# Altium integrated library TI Amplifiers and Linear PGA-VGA.IntLib: 149 symbols (part 3 of 8)
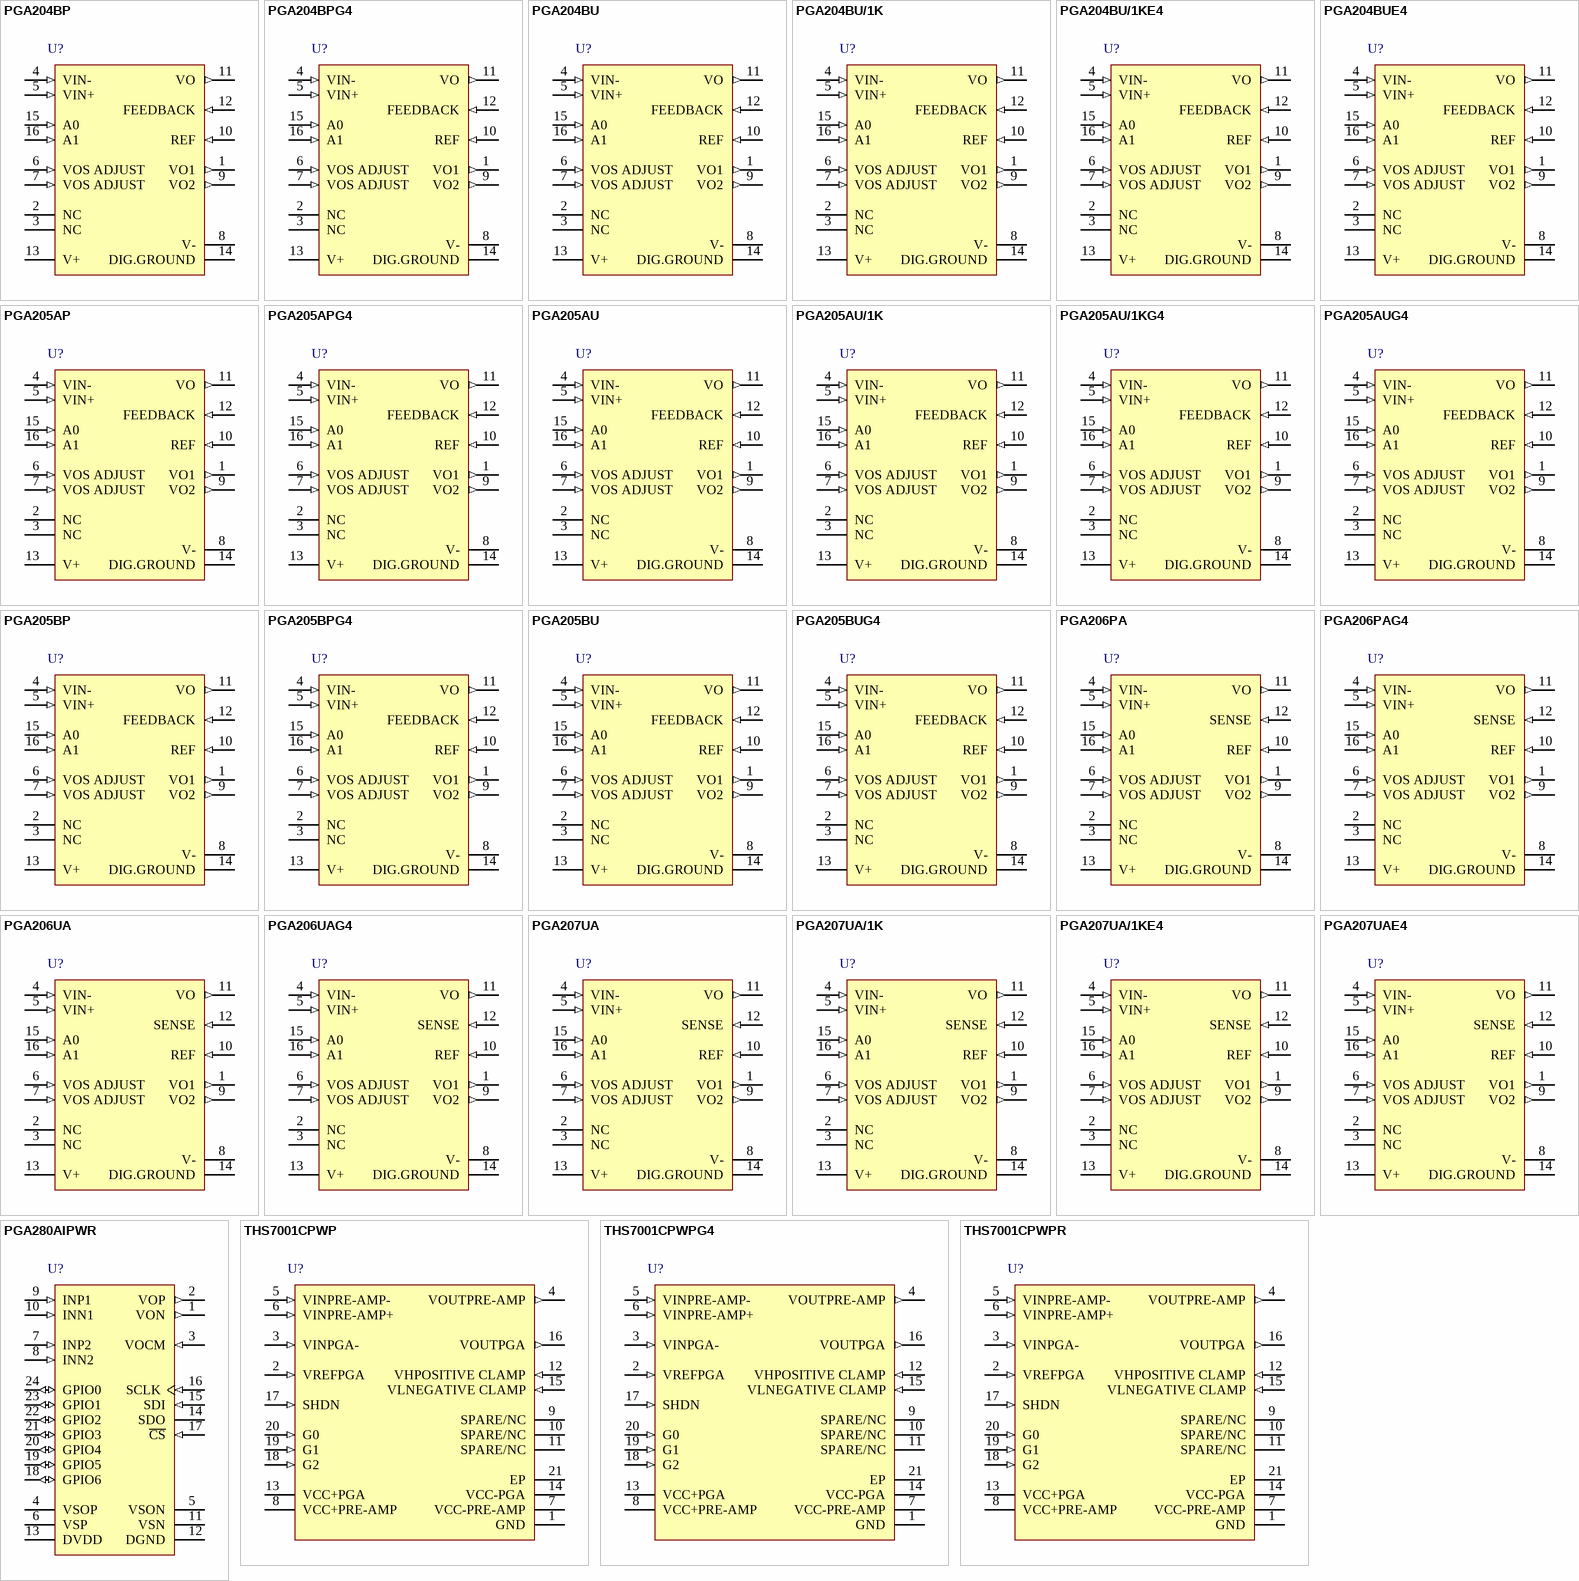
[diagram p9: symbols PGA204BP to THS7001CPWPR]

## PGA205AUG4
designator U?
Programmable Gain Instrumentation Amplifier, -40 to 85 degC, 16-pin SOIC (DW16), Green (RoHS & no Sb/Br); Manufacturer: Texas Instruments; PartNumber: PGA205AUG4; Common Mode Input High(Min)(V): 10.5; Common Mode Input Low(Min)(V): -10.5; Gain Error (+/-)(Max)(%): 0.05; Gain(V/V): 1, 2, 4, 8; Input Bias Current (+/-)(Max)(nA): 5; Input Offset (+/-)(Max)(uV): 125; Input Offset Drift (+/-)(Max)(uV/Degrees Celsius): 1; Noise at 1kHz(Typ)(nV/rt(Hz)): 15; Non-Linearity (+/-)(Max)(%): 0.002; Quiescent Current (+/-)(Typ)(mA): 5.2; Settling Time to 0.01%(Typ)(us): 28; Slew Rate(Typ)(V/us): 0.7; SubFamily: Programmable Gain Amplifier; Vs(Max)(V): 36; Vs(Min)(V): 9; DatasheetVersion: SBOS022; PackageVersion: 4040000-2/G, 01/2011; PackageReference: DW16; PackageDescription: 16-Pin Plastic Small Outline, Body 10.30 x 7.50 mm, Pitch 1.27 mm; Supplier 1: Digi-Key; Supplier Part Number 1: PGA205AUG4-ND; Supplier 2: Mouser; Supplier Part Number 2: 595-PGA205AUG4; Eco-Plan: Green (RoHS & no Sb/Br); Number of Channels: 1; Mounting Technology: Surface Mount; Code_JEDEC: MS-013; ComponentLink1Description: Manufacturer URL; ComponentLink1URL: http://www.ti.com/; ComponentLink2Description: Datasheet; ComponentLink2URL: http://www.ti.com/general/docs/lit/getliterature.tsp?genericPartNumber=PGA205&fileType=pdf; ComponentLink3Description: Package Specification; ComponentLink3URL: http://www.ti.com/litv/pdf/msoi003g
footprint TI-DW16_N (SOIC, 16-Leads, Body 10.5x7.6mm, Pitch 1.27mm, IPC Medium Density)
footprint TI-DW16_L (SOIC, 16-Leads, Body 10.5x7.6mm, Pitch 1.27mm, IPC High Density)
footprint TI-DW16_M (SOIC, 16-Leads, Body 10.5x7.6mm, Pitch 1.27mm, IPC Low Density)
pins: 1 VO1 (out), 2 NC, 3 NC, 4 VIN- (in), 5 VIN+ (in), 6 VOS ADJUST (in), 7 VOS ADJUST (in), 8 V- (power), 9 VO2 (out), 10 REF (in), 11 VO (out), 12 FEEDBACK (in), 13 V+ (power), 14 DIG.GROUND (power), 15 A0 (in), 16 A1 (in)

## PGA205BP
designator U?
Programmable Gain Instrumentation Amplifier, -40 to 85 degC, 16-pin DIP (N16), Green (RoHS & no Sb/Br); Manufacturer: Texas Instruments; PartNumber: PGA205BP; Common Mode Input High(Min)(V): 10.5; Common Mode Input Low(Min)(V): -10.5; Gain Error (+/-)(Max)(%): 0.024; Gain(V/V): 1, 2, 4, 8; Input Bias Current (+/-)(Max)(nA): 2; Input Offset (+/-)(Max)(uV): 50; Input Offset Drift (+/-)(Max)(uV/Degrees Celsius): 0.25; Noise at 1kHz(Typ)(nV/rt(Hz)): 15; Non-Linearity (+/-)(Max)(%): 0.001; Number of Channels: 1; Quiescent Current (+/-)(Typ)(mA): 5.2; Settling Time to 0.01%(Typ)(us): 28; Slew Rate(Typ)(V/us): 0.7; SubFamily: Programmable Gain Amplifier; Vs(Max)(V): 36; Vs(Min)(V): 9; DatasheetVersion: SBOS022; PackageVersion: 4040049/E, 12/2002; PackageReference: N16; PackageDescription: 16-Pin Plastic In-Line, Body 19.305 x 6.35 mm, Pitch 2.54 mm; Supplier 1: Digi-Key; Supplier Part Number 1: PGA205BP-ND; Supplier 2: Newark; Supplier Part Number 2: 80K6040; Supplier 3: Mouser; Supplier Part Number 3: 595-PGA205BP; Eco-Plan: Green (RoHS & no Sb/Br); Mounting Technology: Through Hole; Code_JEDEC: MS-001; ComponentLink1Description: Manufacturer URL; ComponentLink1URL: http://www.ti.com/; ComponentLink2Description: Datasheet; ComponentLink2URL: http://www.ti.com/general/docs/lit/getliterature.tsp?genericPartNumber=PGA205&fileType=pdf; ComponentLink3Description: Package Specification; ComponentLink3URL: http://www.ti.com/litv/pdf/mpdi002c
footprint TI-N16 (DIP, 16-Leads, Body 19.7x6.6mm, Pitch 2.54mm)
pins: 1 VO1 (out), 2 NC, 3 NC, 4 VIN- (in), 5 VIN+ (in), 6 VOS ADJUST (in), 7 VOS ADJUST (in), 8 V- (power), 9 VO2 (out), 10 REF (in), 11 VO (out), 12 FEEDBACK (in), 13 V+ (power), 14 DIG.GROUND (power), 15 A0 (in), 16 A1 (in)

## PGA205BPG4
designator U?
Programmable Gain Instrumentation Amplifier, -40 to 85 degC, 16-pin DIP (N16), Green (RoHS & no Sb/Br); Manufacturer: Texas Instruments; PartNumber: PGA205BPG4; Common Mode Input High(Min)(V): 10.5; Common Mode Input Low(Min)(V): -10.5; Gain Error (+/-)(Max)(%): 0.024; Gain(V/V): 1, 2, 4, 8; Input Bias Current (+/-)(Max)(nA): 2; Input Offset (+/-)(Max)(uV): 50; Input Offset Drift (+/-)(Max)(uV/Degrees Celsius): 0.25; Noise at 1kHz(Typ)(nV/rt(Hz)): 15; Non-Linearity (+/-)(Max)(%): 0.001; Number of Channels: 1; Quiescent Current (+/-)(Typ)(mA): 5.2; Settling Time to 0.01%(Typ)(us): 28; Slew Rate(Typ)(V/us): 0.7; SubFamily: Programmable Gain Amplifier; Vs(Max)(V): 36; Vs(Min)(V): 9; DatasheetVersion: SBOS022; PackageVersion: 4040049/E, 12/2002; PackageReference: N16; PackageDescription: 16-Pin Plastic In-Line, Body 19.305 x 6.35 mm, Pitch 2.54 mm; Supplier 1: Digi-Key; Supplier Part Number 1: PGA205BPG4-ND; Supplier 2: Newark; Supplier Part Number 2: 28M6726; Supplier 3: Mouser; Supplier Part Number 3: 595-PGA205BPG4; Eco-Plan: Green (RoHS & no Sb/Br); Mounting Technology: Through Hole; Code_JEDEC: MS-001; ComponentLink1Description: Manufacturer URL; ComponentLink1URL: http://www.ti.com/; ComponentLink2Description: Datasheet; ComponentLink2URL: http://www.ti.com/general/docs/lit/getliterature.tsp?genericPartNumber=PGA205&fileType=pdf; ComponentLink3Description: Package Specification; ComponentLink3URL: http://www.ti.com/litv/pdf/mpdi002c
footprint TI-N16 (DIP, 16-Leads, Body 19.7x6.6mm, Pitch 2.54mm)
pins: 1 VO1 (out), 2 NC, 3 NC, 4 VIN- (in), 5 VIN+ (in), 6 VOS ADJUST (in), 7 VOS ADJUST (in), 8 V- (power), 9 VO2 (out), 10 REF (in), 11 VO (out), 12 FEEDBACK (in), 13 V+ (power), 14 DIG.GROUND (power), 15 A0 (in), 16 A1 (in)

## PGA205BU
designator U?
Programmable Gain Instrumentation Amplifier, -40 to 85 degC, 16-pin SOIC (DW16), Green (RoHS & no Sb/Br); Manufacturer: Texas Instruments; PartNumber: PGA205BU; Common Mode Input High(Min)(V): 10.5; Common Mode Input Low(Min)(V): -10.5; Gain Error (+/-)(Max)(%): 0.024; Gain(V/V): 1, 2, 4, 8; Input Bias Current (+/-)(Max)(nA): 2; Input Offset (+/-)(Max)(uV): 50; Input Offset Drift (+/-)(Max)(uV/Degrees Celsius): 0.25; Noise at 1kHz(Typ)(nV/rt(Hz)): 15; Non-Linearity (+/-)(Max)(%): 0.001; Number of Channels: 1; Quiescent Current (+/-)(Typ)(mA): 5.2; Settling Time to 0.01%(Typ)(us): 28; Slew Rate(Typ)(V/us): 0.7; SubFamily: Programmable Gain Amplifier; Vs(Max)(V): 36; Vs(Min)(V): 9; DatasheetVersion: SBOS022; PackageVersion: 4040000-2/G, 01/2011; PackageReference: DW16; PackageDescription: 16-Pin Plastic Small Outline, Body 10.30 x 7.50 mm, Pitch 1.27 mm; Supplier 1: Digi-Key; Supplier Part Number 1: PGA205BU-ND; Supplier 2: Farnell; Supplier Part Number 2: 1212336; Supplier 3: Newark; Supplier Part Number 3: 01M8467; Supplier 4: Newark; Supplier Part Number 4: 80K6041; Supplier 5: Mouser; Supplier Part Number 5: 595-PGA205BU; Eco-Plan: Green (RoHS & no Sb/Br); Mounting Technology: Surface Mount; Code_JEDEC: MS-013; ComponentLink1Description: Manufacturer URL; ComponentLink1URL: http://www.ti.com/; ComponentLink2Description: Datasheet; ComponentLink2URL: http://www.ti.com/general/docs/lit/getliterature.tsp?genericPartNumber=PGA205&fileType=pdf; ComponentLink3Description: Package Specification; ComponentLink3URL: http://www.ti.com/litv/pdf/msoi003g
footprint TI-DW16_N (SOIC, 16-Leads, Body 10.5x7.6mm, Pitch 1.27mm, IPC Medium Density)
footprint TI-DW16_L (SOIC, 16-Leads, Body 10.5x7.6mm, Pitch 1.27mm, IPC High Density)
footprint TI-DW16_M (SOIC, 16-Leads, Body 10.5x7.6mm, Pitch 1.27mm, IPC Low Density)
pins: 1 VO1 (out), 2 NC, 3 NC, 4 VIN- (in), 5 VIN+ (in), 6 VOS ADJUST (in), 7 VOS ADJUST (in), 8 V- (power), 9 VO2 (out), 10 REF (in), 11 VO (out), 12 FEEDBACK (in), 13 V+ (power), 14 DIG.GROUND (power), 15 A0 (in), 16 A1 (in)

## PGA205BUG4
designator U?
Programmable Gain Instrumentation Amplifier, -40 to 85 degC, 16-pin SOIC (DW16), Green (RoHS & no Sb/Br); Manufacturer: Texas Instruments; PartNumber: PGA205BUG4; Common Mode Input High(Min)(V): 10.5; Common Mode Input Low(Min)(V): -10.5; Gain Error (+/-)(Max)(%): 0.024; Gain(V/V): 1, 2, 4, 8; Input Bias Current (+/-)(Max)(nA): 2; Input Offset (+/-)(Max)(uV): 50; Input Offset Drift (+/-)(Max)(uV/Degrees Celsius): 0.25; Noise at 1kHz(Typ)(nV/rt(Hz)): 15; Non-Linearity (+/-)(Max)(%): 0.001; Number of Channels: 1; Quiescent Current (+/-)(Typ)(mA): 5.2; Settling Time to 0.01%(Typ)(us): 28; Slew Rate(Typ)(V/us): 0.7; SubFamily: Programmable Gain Amplifier; Vs(Max)(V): 36; Vs(Min)(V): 9; DatasheetVersion: SBOS022; PackageVersion: 4040000-2/G, 01/2011; PackageReference: DW16; PackageDescription: 16-Pin Plastic Small Outline, Body 10.30 x 7.50 mm, Pitch 1.27 mm; Supplier 1: Digi-Key; Supplier Part Number 1: PGA205BUG4-ND; Supplier 2: Mouser; Supplier Part Number 2: 595-PGA205BUG4; Eco-Plan: Green (RoHS & no Sb/Br); Mounting Technology: Surface Mount; Code_JEDEC: MS-013; ComponentLink1Description: Manufacturer URL; ComponentLink1URL: http://www.ti.com/; ComponentLink2Description: Datasheet; ComponentLink2URL: http://www.ti.com/general/docs/lit/getliterature.tsp?genericPartNumber=PGA205&fileType=pdf; ComponentLink3Description: Package Specification; ComponentLink3URL: http://www.ti.com/litv/pdf/msoi003g
footprint TI-DW16_N (SOIC, 16-Leads, Body 10.5x7.6mm, Pitch 1.27mm, IPC Medium Density)
footprint TI-DW16_L (SOIC, 16-Leads, Body 10.5x7.6mm, Pitch 1.27mm, IPC High Density)
footprint TI-DW16_M (SOIC, 16-Leads, Body 10.5x7.6mm, Pitch 1.27mm, IPC Low Density)
pins: 1 VO1 (out), 2 NC, 3 NC, 4 VIN- (in), 5 VIN+ (in), 6 VOS ADJUST (in), 7 VOS ADJUST (in), 8 V- (power), 9 VO2 (out), 10 REF (in), 11 VO (out), 12 FEEDBACK (in), 13 V+ (power), 14 DIG.GROUND (power), 15 A0 (in), 16 A1 (in)

## PGA206PA
designator U?
High-Speed Programmable Gain Instrumentation Amplifier, -40 to 85 degC, 16-pin DIP (N16), Green (RoHS & no Sb/Br); Manufacturer: Texas Instruments; PartNumber: PGA206PA; Gain Error (+/-)(Max)(%): 0.1; Gain(V/V): 1, 2, 4, 8; Input Offset (+/-)(Max)(uV): 2500; Noise at 1kHz(Typ)(nV/rt(Hz)): 18; Non-Linearity (+/-)(Max)(%): 0.005; Number of Channels: 1; Quiescent Current (+/-)(Typ)(mA): 12.4; Settling Time to 0.01%(Typ)(us): 3.5; Slew Rate(Typ)(V/us): 25; SubFamily: Programmable Gain Amplifier; Vs(Max)(V): 36; Vs(Min)(V): 9; DatasheetVersion: SBOS033; PackageVersion: 4040049/E, 12/2002; PackageReference: N16; PackageDescription: 16-Pin Plastic In-Line, Body 19.305 x 6.35 mm, Pitch 2.54 mm; Supplier 1: Digi-Key; Supplier Part Number 1: 296-33537-5-ND; Supplier 2: Farnell; Supplier Part Number 2: 1470400; Supplier 3: Newark; Supplier Part Number 3: 75C5426; Supplier 4: Mouser; Supplier Part Number 4: 595-PGA206PA; Eco-Plan: Green (RoHS & no Sb/Br); Input Bias Current (+/-)(Max)(nA): 0.1; Mounting Technology: Through Hole; Code_JEDEC: MS-001; ComponentLink1Description: Manufacturer URL; ComponentLink1URL: http://www.ti.com/; ComponentLink2Description: Datasheet; ComponentLink2URL: http://www.ti.com/general/docs/lit/getliterature.tsp?genericPartNumber=PGA206&fileType=pdf; ComponentLink3Description: Package Specification; ComponentLink3URL: http://www.ti.com/litv/pdf/mpdi002c
footprint TI-N16 (DIP, 16-Leads, Body 19.7x6.6mm, Pitch 2.54mm)
pins: 1 VO1 (out), 2 NC, 3 NC, 4 VIN- (in), 5 VIN+ (in), 6 VOS ADJUST (in), 7 VOS ADJUST (in), 8 V- (power), 9 VO2 (out), 10 REF (in), 11 VO (out), 12 SENSE (in), 13 V+ (power), 14 DIG.GROUND (power), 15 A0 (in), 16 A1 (in)

## PGA206PAG4
designator U?
High-Speed Programmable Gain Instrumentation Amplifier, -40 to 85 degC, 16-pin DIP (N16), Green (RoHS & no Sb/Br); Manufacturer: Texas Instruments; PartNumber: PGA206PAG4; Gain Error (+/-)(Max)(%): 0.1; Gain(V/V): 1, 2, 4, 8; Input Offset (+/-)(Max)(uV): 2500; Noise at 1kHz(Typ)(nV/rt(Hz)): 18; Non-Linearity (+/-)(Max)(%): 0.005; Number of Channels: 1; Quiescent Current (+/-)(Typ)(mA): 12.4; Settling Time to 0.01%(Typ)(us): 3.5; Slew Rate(Typ)(V/us): 25; SubFamily: Programmable Gain Amplifier; Vs(Max)(V): 36; Vs(Min)(V): 9; DatasheetVersion: SBOS033; PackageVersion: 4040049/E, 12/2002; PackageReference: N16; PackageDescription: 16-Pin Plastic In-Line, Body 19.305 x 6.35 mm, Pitch 2.54 mm; Supplier 1: Digi-Key; Supplier Part Number 1: PGA206PAG4-ND; Supplier 2: Mouser; Supplier Part Number 2: 595-PGA206PAG4; Eco-Plan: Green (RoHS & no Sb/Br); Input Bias Current (+/-)(Max)(nA): 0.1; Mounting Technology: Through Hole; Code_JEDEC: MS-001; ComponentLink1Description: Manufacturer URL; ComponentLink1URL: http://www.ti.com/; ComponentLink2Description: Datasheet; ComponentLink2URL: http://www.ti.com/general/docs/lit/getliterature.tsp?genericPartNumber=PGA206&fileType=pdf; ComponentLink3Description: Package Specification; ComponentLink3URL: http://www.ti.com/litv/pdf/mpdi002c
footprint TI-N16 (DIP, 16-Leads, Body 19.7x6.6mm, Pitch 2.54mm)
pins: 1 VO1 (out), 2 NC, 3 NC, 4 VIN- (in), 5 VIN+ (in), 6 VOS ADJUST (in), 7 VOS ADJUST (in), 8 V- (power), 9 VO2 (out), 10 REF (in), 11 VO (out), 12 SENSE (in), 13 V+ (power), 14 DIG.GROUND (power), 15 A0 (in), 16 A1 (in)

## PGA206UA
designator U?
High-Speed Programmable Gain Instrumentation Amplifier, -40 to 85 degC, 16-pin SOIC (DW16), Green (RoHS & no Sb/Br); Manufacturer: Texas Instruments; PartNumber: PGA206UA; Gain Error (+/-)(Max)(%): 0.1; Gain(V/V): 1, 2, 4, 8; Input Offset (+/-)(Max)(uV): 2500; Noise at 1kHz(Typ)(nV/rt(Hz)): 18; Non-Linearity (+/-)(Max)(%): 0.005; Number of Channels: 1; Quiescent Current (+/-)(Typ)(mA): 12.4; Settling Time to 0.01%(Typ)(us): 3.5; Slew Rate(Typ)(V/us): 25; SubFamily: Programmable Gain Amplifier; Vs(Max)(V): 36; Vs(Min)(V): 9; DatasheetVersion: SBOS033; PackageVersion: 4040000-2/G, 01/2011; PackageReference: DW16; PackageDescription: 16-Pin Plastic Small Outline, Body 10.30 x 7.50 mm, Pitch 1.27 mm; Supplier 1: Digi-Key; Supplier Part Number 1: PGA206UA-ND; Supplier 2: Farnell; Supplier Part Number 2: 1212337; Supplier 3: Newark; Supplier Part Number 3: 35C1960; Supplier 4: Mouser; Supplier Part Number 4: 595-PGA206UA; Eco-Plan: Green (RoHS & no Sb/Br); Input Bias Current (+/-)(Max)(nA): 0.1; Mounting Technology: Surface Mount; Code_JEDEC: MS-013; ComponentLink1Description: Manufacturer URL; ComponentLink1URL: http://www.ti.com/; ComponentLink2Description: Datasheet; ComponentLink2URL: http://www.ti.com/general/docs/lit/getliterature.tsp?genericPartNumber=PGA206&fileType=pdf; ComponentLink3Description: Package Specification; ComponentLink3URL: http://www.ti.com/litv/pdf/msoi003g
footprint TI-DW16_N (SOIC, 16-Leads, Body 10.5x7.6mm, Pitch 1.27mm, IPC Medium Density)
footprint TI-DW16_L (SOIC, 16-Leads, Body 10.5x7.6mm, Pitch 1.27mm, IPC High Density)
footprint TI-DW16_M (SOIC, 16-Leads, Body 10.5x7.6mm, Pitch 1.27mm, IPC Low Density)
pins: 1 VO1 (out), 2 NC, 3 NC, 4 VIN- (in), 5 VIN+ (in), 6 VOS ADJUST (in), 7 VOS ADJUST (in), 8 V- (power), 9 VO2 (out), 10 REF (in), 11 VO (out), 12 SENSE (in), 13 V+ (power), 14 DIG.GROUND (power), 15 A0 (in), 16 A1 (in)

## PGA206UAG4
designator U?
High-Speed Programmable Gain Instrumentation Amplifier, -40 to 85 degC, 16-pin SOIC (DW16), Green (RoHS & no Sb/Br); Manufacturer: Texas Instruments; PartNumber: PGA206UAG4; Gain Error (+/-)(Max)(%): 0.1; Gain(V/V): 1, 2, 4, 8; Input Offset (+/-)(Max)(uV): 2500; Noise at 1kHz(Typ)(nV/rt(Hz)): 18; Non-Linearity (+/-)(Max)(%): 0.005; Number of Channels: 1; Quiescent Current (+/-)(Typ)(mA): 12.4; Settling Time to 0.01%(Typ)(us): 3.5; Slew Rate(Typ)(V/us): 25; SubFamily: Programmable Gain Amplifier; Vs(Max)(V): 36; Vs(Min)(V): 9; DatasheetVersion: SBOS033; PackageVersion: 4040000-2/G, 01/2011; PackageReference: DW16; PackageDescription: 16-Pin Plastic Small Outline, Body 10.30 x 7.50 mm, Pitch 1.27 mm; Supplier 1: Digi-Key; Supplier Part Number 1: PGA206UAG4-ND; Supplier 2: Newark; Supplier Part Number 2: 27M0483; Supplier 3: Mouser; Supplier Part Number 3: 595-PGA206UAG4; Eco-Plan: Green (RoHS & no Sb/Br); Input Bias Current (+/-)(Max)(nA): 0.1; Mounting Technology: Surface Mount; Code_JEDEC: MS-013; ComponentLink1Description: Manufacturer URL; ComponentLink1URL: http://www.ti.com/; ComponentLink2Description: Datasheet; ComponentLink2URL: http://www.ti.com/general/docs/lit/getliterature.tsp?genericPartNumber=PGA206&fileType=pdf; ComponentLink3Description: Package Specification; ComponentLink3URL: http://www.ti.com/litv/pdf/msoi003g
footprint TI-DW16_N (SOIC, 16-Leads, Body 10.5x7.6mm, Pitch 1.27mm, IPC Medium Density)
footprint TI-DW16_L (SOIC, 16-Leads, Body 10.5x7.6mm, Pitch 1.27mm, IPC High Density)
footprint TI-DW16_M (SOIC, 16-Leads, Body 10.5x7.6mm, Pitch 1.27mm, IPC Low Density)
pins: 1 VO1 (out), 2 NC, 3 NC, 4 VIN- (in), 5 VIN+ (in), 6 VOS ADJUST (in), 7 VOS ADJUST (in), 8 V- (power), 9 VO2 (out), 10 REF (in), 11 VO (out), 12 SENSE (in), 13 V+ (power), 14 DIG.GROUND (power), 15 A0 (in), 16 A1 (in)

## PGA207UA
designator U?
High-Speed Programmable Gain Instrumentation Amplifier, -40 to 85 degC, 16-pin SOIC (DW16), Green (RoHS & no Sb/Br); Manufacturer: Texas Instruments; PartNumber: PGA207UA; Gain Error (+/-)(Max)(%): 0.1; Gain(V/V): 1, 2, 5, 10; Input Offset (+/-)(Max)(uV): 2500; Noise at 1kHz(Typ)(nV/rt(Hz)): 18; Non-Linearity (+/-)(Max)(%): 0.005; Number of Channels: 1; Quiescent Current (+/-)(Typ)(mA): 12.4; Settling Time to 0.01%(Typ)(us): 3.5; Slew Rate(Typ)(V/us): 25; SubFamily: Programmable Gain Amplifier; Vs(Max)(V): 36; Vs(Min)(V): 9; DatasheetVersion: SBOS033; PackageVersion: 4040000-2/G, 01/2011; PackageReference: DW16; PackageDescription: 16-Pin Plastic Small Outline, Body 10.30 x 7.50 mm, Pitch 1.27 mm; Supplier 1: Digi-Key; Supplier Part Number 1: 296-15093-5-ND; Supplier 2: Farnell; Supplier Part Number 2: 1212338; Supplier 3: Newark; Supplier Part Number 3: 75C5427; Supplier 4: Mouser; Supplier Part Number 4: 595-PGA207UA; Eco-Plan: Green (RoHS & no Sb/Br); Input Bias Current (+/-)(Max)(nA): 0.1; Mounting Technology: Surface Mount; Code_JEDEC: MS-013; ComponentLink1Description: Manufacturer URL; ComponentLink1URL: http://www.ti.com/; ComponentLink2Description: Datasheet; ComponentLink2URL: http://www.ti.com/general/docs/lit/getliterature.tsp?genericPartNumber=PGA207&fileType=pdf; ComponentLink3Description: Package Specification; ComponentLink3URL: http://www.ti.com/litv/pdf/msoi003g
footprint TI-DW16_N (SOIC, 16-Leads, Body 10.5x7.6mm, Pitch 1.27mm, IPC Medium Density)
footprint TI-DW16_L (SOIC, 16-Leads, Body 10.5x7.6mm, Pitch 1.27mm, IPC High Density)
footprint TI-DW16_M (SOIC, 16-Leads, Body 10.5x7.6mm, Pitch 1.27mm, IPC Low Density)
pins: 1 VO1 (out), 2 NC, 3 NC, 4 VIN- (in), 5 VIN+ (in), 6 VOS ADJUST (in), 7 VOS ADJUST (in), 8 V- (power), 9 VO2 (out), 10 REF (in), 11 VO (out), 12 SENSE (in), 13 V+ (power), 14 DIG.GROUND (power), 15 A0 (in), 16 A1 (in)

## PGA207UA/1K
designator U?
High-Speed Programmable Gain Instrumentation Amplifier, -40 to 85 degC, 16-pin SOIC (DW16), Green (RoHS & no Sb/Br); Manufacturer: Texas Instruments; PartNumber: PGA207UA/1K; Gain Error (+/-)(Max)(%): 0.1; Gain(V/V): 1, 2, 5, 10; Input Offset (+/-)(Max)(uV): 2500; Noise at 1kHz(Typ)(nV/rt(Hz)): 18; Non-Linearity (+/-)(Max)(%): 0.005; Number of Channels: 1; Quiescent Current (+/-)(Typ)(mA): 12.4; Settling Time to 0.01%(Typ)(us): 3.5; Slew Rate(Typ)(V/us): 25; SubFamily: Programmable Gain Amplifier; Vs(Max)(V): 36; Vs(Min)(V): 9; DatasheetVersion: SBOS033; PackageVersion: 4040000-2/G, 01/2011; PackageReference: DW16; PackageDescription: 16-Pin Plastic Small Outline, Body 10.30 x 7.50 mm, Pitch 1.27 mm; Supplier 1: Digi-Key; Supplier Part Number 1: PGA207UA/1K-ND; Supplier 2: Mouser; Supplier Part Number 2: 595-PGA207UA/1K; Eco-Plan: Green (RoHS & no Sb/Br); Input Bias Current (+/-)(Max)(nA): 0.1; Mounting Technology: Surface Mount; Code_JEDEC: MS-013; ComponentLink1Description: Manufacturer URL; ComponentLink1URL: http://www.ti.com/; ComponentLink2Description: Datasheet; ComponentLink2URL: http://www.ti.com/general/docs/lit/getliterature.tsp?genericPartNumber=PGA207&fileType=pdf; ComponentLink3Description: Package Specification; ComponentLink3URL: http://www.ti.com/litv/pdf/msoi003g
footprint TI-DW16_N (SOIC, 16-Leads, Body 10.5x7.6mm, Pitch 1.27mm, IPC Medium Density)
footprint TI-DW16_L (SOIC, 16-Leads, Body 10.5x7.6mm, Pitch 1.27mm, IPC High Density)
footprint TI-DW16_M (SOIC, 16-Leads, Body 10.5x7.6mm, Pitch 1.27mm, IPC Low Density)
pins: 1 VO1 (out), 2 NC, 3 NC, 4 VIN- (in), 5 VIN+ (in), 6 VOS ADJUST (in), 7 VOS ADJUST (in), 8 V- (power), 9 VO2 (out), 10 REF (in), 11 VO (out), 12 SENSE (in), 13 V+ (power), 14 DIG.GROUND (power), 15 A0 (in), 16 A1 (in)

## PGA207UA/1KE4
designator U?
High-Speed Programmable Gain Instrumentation Amplifier, -40 to 85 degC, 16-pin SOIC (DW16), Green (RoHS & no Sb/Br); Manufacturer: Texas Instruments; PartNumber: PGA207UA/1KE4; Gain Error (+/-)(Max)(%): 0.1; Gain(V/V): 1, 2, 5, 10; Input Offset (+/-)(Max)(uV): 2500; Noise at 1kHz(Typ)(nV/rt(Hz)): 18; Non-Linearity (+/-)(Max)(%): 0.005; Number of Channels: 1; Quiescent Current (+/-)(Typ)(mA): 12.4; Settling Time to 0.01%(Typ)(us): 3.5; Slew Rate(Typ)(V/us): 25; SubFamily: Programmable Gain Amplifier; Vs(Max)(V): 36; Vs(Min)(V): 9; DatasheetVersion: SBOS033; PackageVersion: 4040000-2/G, 01/2011; PackageReference: DW16; PackageDescription: 16-Pin Plastic Small Outline, Body 10.30 x 7.50 mm, Pitch 1.27 mm; Supplier 1: Digi-Key; Supplier Part Number 1: PGA207UA/1KE4-ND; Supplier 2: Mouser; Supplier Part Number 2: 595-PGA207UA/1KE4; Eco-Plan: Green (RoHS & no Sb/Br); Input Bias Current (+/-)(Max)(nA): 0.1; Mounting Technology: Surface Mount; Code_JEDEC: MS-013; ComponentLink1Description: Manufacturer URL; ComponentLink1URL: http://www.ti.com/; ComponentLink2Description: Datasheet; ComponentLink2URL: http://www.ti.com/general/docs/lit/getliterature.tsp?genericPartNumber=PGA207&fileType=pdf; ComponentLink3Description: Package Specification; ComponentLink3URL: http://www.ti.com/litv/pdf/msoi003g
footprint TI-DW16_N (SOIC, 16-Leads, Body 10.5x7.6mm, Pitch 1.27mm, IPC Medium Density)
footprint TI-DW16_L (SOIC, 16-Leads, Body 10.5x7.6mm, Pitch 1.27mm, IPC High Density)
footprint TI-DW16_M (SOIC, 16-Leads, Body 10.5x7.6mm, Pitch 1.27mm, IPC Low Density)
pins: 1 VO1 (out), 2 NC, 3 NC, 4 VIN- (in), 5 VIN+ (in), 6 VOS ADJUST (in), 7 VOS ADJUST (in), 8 V- (power), 9 VO2 (out), 10 REF (in), 11 VO (out), 12 SENSE (in), 13 V+ (power), 14 DIG.GROUND (power), 15 A0 (in), 16 A1 (in)

## PGA207UAE4
designator U?
High-Speed Programmable Gain Instrumentation Amplifier, -40 to 85 degC, 16-pin SOIC (DW16), Green (RoHS & no Sb/Br); Manufacturer: Texas Instruments; PartNumber: PGA207UAE4; Gain Error (+/-)(Max)(%): 0.1; Gain(V/V): 1, 2, 5, 10; Input Offset (+/-)(Max)(uV): 2500; Noise at 1kHz(Typ)(nV/rt(Hz)): 18; Non-Linearity (+/-)(Max)(%): 0.005; Number of Channels: 1; Quiescent Current (+/-)(Typ)(mA): 12.4; Settling Time to 0.01%(Typ)(us): 3.5; Slew Rate(Typ)(V/us): 25; SubFamily: Programmable Gain Amplifier; Vs(Max)(V): 36; Vs(Min)(V): 9; DatasheetVersion: SBOS033; PackageVersion: 4040000-2/G, 01/2011; PackageReference: DW16; PackageDescription: 16-Pin Plastic Small Outline, Body 10.30 x 7.50 mm, Pitch 1.27 mm; Supplier 1: Digi-Key; Supplier Part Number 1: PGA207UAE4-ND; Supplier 2: Mouser; Supplier Part Number 2: 595-PGA207UAE4; Eco-Plan: Green (RoHS & no Sb/Br); Input Bias Current (+/-)(Max)(nA): 0.1; Mounting Technology: Surface Mount; Code_JEDEC: MS-013; ComponentLink1Description: Manufacturer URL; ComponentLink1URL: http://www.ti.com/; ComponentLink2Description: Datasheet; ComponentLink2URL: http://www.ti.com/general/docs/lit/getliterature.tsp?genericPartNumber=PGA207&fileType=pdf; ComponentLink3Description: Package Specification; ComponentLink3URL: http://www.ti.com/litv/pdf/msoi003g
footprint TI-DW16_N (SOIC, 16-Leads, Body 10.5x7.6mm, Pitch 1.27mm, IPC Medium Density)
footprint TI-DW16_L (SOIC, 16-Leads, Body 10.5x7.6mm, Pitch 1.27mm, IPC High Density)
footprint TI-DW16_M (SOIC, 16-Leads, Body 10.5x7.6mm, Pitch 1.27mm, IPC Low Density)
pins: 1 VO1 (out), 2 NC, 3 NC, 4 VIN- (in), 5 VIN+ (in), 6 VOS ADJUST (in), 7 VOS ADJUST (in), 8 V- (power), 9 VO2 (out), 10 REF (in), 11 VO (out), 12 SENSE (in), 13 V+ (power), 14 DIG.GROUND (power), 15 A0 (in), 16 A1 (in)

## PGA280AIPWR
designator U?
Zero Drift, HV Programmable Gain Amplifier, -40 to 105 degC, 24-pin SOP (PW24), Green (RoHS & no Sb/Br); Manufacturer: Texas Instruments; PartNumber: PGA280AIPWR; Gain(V/V): 1/8 to 128; Input Bias Current (+/-)(Max)(nA): 2; Input Offset (+/-)(Max)(uV): 15; Input Offset Drift (+/-)(Max)(uV/Degrees Celsius): 0.17; Noise at 1kHz(Typ)(nV/rt(Hz)): 22; Quiescent Current (+/-)(Typ)(mA): 0.07; Settling Time to 0.01%(Typ)(us): 40; Slew Rate(Typ)(V/us): 1; Vs(Max)(V): 36; Vs(Min)(V): 10; DatasheetVersion: SBOS487A; PackageVersion: 4040064-6/G, 02/2011; PackageReference: PW24; PackageDescription: 24-Pin Plastic Small Outline, Body 7.8 x 4.4 mm, Pitch 0.65 mm; Supplier 1: Digi-Key; Supplier Part Number 1: PGA280AIPWR-ND; Supplier 2: Newark; Supplier Part Number 2: 50R7824; Supplier 3: Mouser; Supplier Part Number 3: 595-PGA280AIPWR; Eco-Plan: Green (RoHS & no Sb/Br); SubFamily: Programmable Gain Amplifier; Mounting Technology: Surface Mount; Code_JEDEC: MO-153; ComponentLink1Description: Manufacturer URL; ComponentLink1URL: http://www.ti.com/; ComponentLink2Description: Datasheet; ComponentLink2URL: http://www.ti.com/general/docs/lit/getliterature.tsp?genericPartNumber=PGA280&fileType=pdf; ComponentLink3Description: Package Specification; ComponentLink3URL: http://www.ti.com/litv/pdf/mpds363
footprint TI-PW24_N (SOP, 24-Leads, Body 7.8x4.4mm, Pitch 0.65mm, IPC Medium Density)
footprint TI-PW24_L (SOP, 24-Leads, Body 7.8x4.4mm, Pitch 0.65mm, IPC High Density)
footprint TI-PW24_M (SOP, 24-Leads, Body 7.8x4.4mm, Pitch 0.65mm, IPC Low Density)
pins: 1 VON (out) "Inverting signal output", 2 VOP (out) "Noninverting signal output", 3 VOCM (in) "Input, output common-mode voltage", 4 VSOP (power) "Positive supply for output", 5 VSON (power) "Negative supply for output, AGND", 6 VSP (power) "Positive high-voltage supply", 7 INP2 (in) "AUX input, noninverting", 8 INN2 (in) "AUX input, inverting", 9 INP1 (in) "Signal input, noninverting", 10 INN1 (in) "Signal input, inverting", 11 VSN (power) "Negative high-voltage supply", 12 DGND (power) "Digital ground", 13 DVDD (power) "Digital supply", 14 SDO (hiz) "SPI slave data output", 15 SDI (in) "SPI slave data input", 16 SCLK (in) "SPI clock input", 17 ~{CS} (in) "SPI chip select input; active low", 18 GPIO6 (io) "GPIO 6, SYNC (in), OSC (out), E\C\S\6", 19 GPIO5 (io) "GPIO 5, BUFA (out), E\C\S\5", 20 GPIO4 (io) "GPIO 4, BUFT (in), E\C\S\4", 21 GPIO3 (io) "GPIO 3, EF (out), E\C\S\3", 22 GPIO2 (io) "GPIO 2, E\C\S\2, MUX2", 23 GPIO1 (io) "GPIO 1, E\C\S\1, MUX1", 24 GPIO0 (io) "GPIO 0, E\C\S\0, MUX0"

## THS7001CPWP
designator U?
70-MHz High-Speed Programmable-Gain Amplifier, 0 to 70 degC, 20-pin SOP (PWP20), Green (RoHS & no Sb/Br); Manufacturer: Texas Instruments; PartNumber: THS7001CPWP; BW @ Acl(MHz): 100; Disable: TRUE; Iib(Max)(nA): 6000; Number of Channels: 1; Slew Rate(Typ)(V/us): 85; SubFamily: Variable Gain Amplifier; Vio(Max)(mV): 7; Vn at Flatband(Typ)(nV/rtHz): 1.7; Vs(Max)(V): 32; Vs(Min)(V): 9; DatasheetVersion: SLOS214C; PackageVersion: 4073225-4/I, 05/2011; PackageReference: PWP20-3005X2005TP; PackageDescription: 20-Pin Plastic Small Outline, Body 4.4 x 6.5 mm, Pitch 0.65 mm; Supplier 1: Digi-Key; Supplier Part Number 1: 296-2411-5-ND; Supplier 2: Newark; Supplier Part Number 2: 76C6598; Supplier 3: Mouser; Supplier Part Number 3: 595-THS7001CPWP; Eco-Plan: Green (RoHS & no Sb/Br); Mounting Technology: Surface Mount; Code_JEDEC: MO-153; ComponentLink1Description: Manufacturer URL; ComponentLink1URL: http://www.ti.com/; ComponentLink2Description: Datasheet; ComponentLink2URL: http://www.ti.com/general/docs/lit/getliterature.tsp?genericPartNumber=THS7001&fileType=pdf; ComponentLink3Description: Package Specification; ComponentLink3URL: http://www.ti.com/lit/ml/mhts001g/mhts001g.pdf
footprint TI-PWP20-3005X2005TP_N (SOP, 20-Leads, Body 6.5x4.4mm, Pitch 0.65mm, Thermal Pad 3.4x2.4mm, IPC Medium Density)
footprint TI-PWP20-3005X2005TP_L (SOP, 20-Leads, Body 6.5x4.4mm, Pitch 0.65mm, Thermal Pad 3.4x2.4mm, IPC High Density)
footprint TI-PWP20-3005X2005TP_M (SOP, 20-Leads, Body 6.5x4.4mm, Pitch 0.65mm, Thermal Pad 3.4x2.4mm, IPC Low Density)
pins: 1 GND (power), 2 VREFPGA (in), 3 VINPGA- (in), 4 VOUTPRE-AMP (out), 5 VINPRE-AMP- (in), 6 VINPRE-AMP+ (in), 7 VCC-PRE-AMP (power), 8 VCC+PRE-AMP (power), 9 SPARE/NC, 10 SPARE/NC, 11 SPARE/NC, 12 VHPOSITIVE CLAMP (in), 13 VCC+PGA (power), 14 VCC-PGA (power), 15 VLNEGATIVE CLAMP (in), 16 VOUTPGA (out), 17 SHDN (in), 18 G2 (in), 19 G1 (in), 20 G0 (in), 21 EP (power)

## THS7001CPWPG4
designator U?
70-MHz High-Speed Programmable-Gain Amplifier, 0 to 70 degC, 20-pin SOP (PWP20), Green (RoHS & no Sb/Br); Manufacturer: Texas Instruments; PartNumber: THS7001CPWPG4; BW @ Acl(MHz): 100; Disable: TRUE; Iib(Max)(nA): 6000; Number of Channels: 1; Slew Rate(Typ)(V/us): 85; SubFamily: Variable Gain Amplifier; Vio(Max)(mV): 7; Vn at Flatband(Typ)(nV/rtHz): 1.7; Vs(Max)(V): 32; Vs(Min)(V): 9; DatasheetVersion: SLOS214C; PackageVersion: 4073225-4/I, 05/2011; PackageReference: PWP20-3005X2005TP; PackageDescription: 20-Pin Plastic Small Outline, Body 4.4 x 6.5 mm, Pitch 0.65 mm; Supplier 1: Digi-Key; Supplier Part Number 1: THS7001CPWPG4-ND; Supplier 2: Newark; Supplier Part Number 2: 54K0781; Supplier 3: Mouser; Supplier Part Number 3: 595-THS7001CPWPG4; Eco-Plan: Green (RoHS & no Sb/Br); Mounting Technology: Surface Mount; Code_JEDEC: MO-153; ComponentLink1Description: Manufacturer URL; ComponentLink1URL: http://www.ti.com/; ComponentLink2Description: Datasheet; ComponentLink2URL: http://www.ti.com/general/docs/lit/getliterature.tsp?genericPartNumber=THS7001&fileType=pdf; ComponentLink3Description: Package Specification; ComponentLink3URL: http://www.ti.com/lit/ml/mhts001g/mhts001g.pdf
footprint TI-PWP20-3005X2005TP_N (SOP, 20-Leads, Body 6.5x4.4mm, Pitch 0.65mm, Thermal Pad 3.4x2.4mm, IPC Medium Density)
footprint TI-PWP20-3005X2005TP_L (SOP, 20-Leads, Body 6.5x4.4mm, Pitch 0.65mm, Thermal Pad 3.4x2.4mm, IPC High Density)
footprint TI-PWP20-3005X2005TP_M (SOP, 20-Leads, Body 6.5x4.4mm, Pitch 0.65mm, Thermal Pad 3.4x2.4mm, IPC Low Density)
pins: 1 GND (power), 2 VREFPGA (in), 3 VINPGA- (in), 4 VOUTPRE-AMP (out), 5 VINPRE-AMP- (in), 6 VINPRE-AMP+ (in), 7 VCC-PRE-AMP (power), 8 VCC+PRE-AMP (power), 9 SPARE/NC, 10 SPARE/NC, 11 SPARE/NC, 12 VHPOSITIVE CLAMP (in), 13 VCC+PGA (power), 14 VCC-PGA (power), 15 VLNEGATIVE CLAMP (in), 16 VOUTPGA (out), 17 SHDN (in), 18 G2 (in), 19 G1 (in), 20 G0 (in), 21 EP (power)

## THS7001CPWPR
designator U?
70-MHz High-Speed Programmable-Gain Amplifier, 0 to 70 degC, 20-pin SOP (PWP20), Green (RoHS & no Sb/Br); Manufacturer: Texas Instruments; PartNumber: THS7001CPWPR; BW @ Acl(MHz): 100; Disable: TRUE; Iib(Max)(nA): 6000; Number of Channels: 1; Slew Rate(Typ)(V/us): 85; SubFamily: Variable Gain Amplifier; Vio(Max)(mV): 7; Vn at Flatband(Typ)(nV/rtHz): 1.7; Vs(Max)(V): 32; Vs(Min)(V): 9; DatasheetVersion: SLOS214C; PackageVersion: 4073225-4/I, 05/2011; PackageReference: PWP20-3005X2005TP; PackageDescription: 20-Pin Plastic Small Outline, Body 4.4 x 6.5 mm, Pitch 0.65 mm; Supplier 1: Digi-Key; Supplier Part Number 1: THS7001CPWPR-ND; Supplier 2: Newark; Supplier Part Number 2: 76C6599; Supplier 3: Mouser; Supplier Part Number 3: 595-THS7001CPWPR; Eco-Plan: Green (RoHS & no Sb/Br); Mounting Technology: Surface Mount; Code_JEDEC: MO-153; ComponentLink1Description: Manufacturer URL; ComponentLink1URL: http://www.ti.com/; ComponentLink2Description: Datasheet; ComponentLink2URL: http://www.ti.com/general/docs/lit/getliterature.tsp?genericPartNumber=THS7001&fileType=pdf; ComponentLink3Description: Package Specification; ComponentLink3URL: http://www.ti.com/lit/ml/mhts001g/mhts001g.pdf
footprint TI-PWP20-3005X2005TP_N (SOP, 20-Leads, Body 6.5x4.4mm, Pitch 0.65mm, Thermal Pad 3.4x2.4mm, IPC Medium Density)
footprint TI-PWP20-3005X2005TP_L (SOP, 20-Leads, Body 6.5x4.4mm, Pitch 0.65mm, Thermal Pad 3.4x2.4mm, IPC High Density)
footprint TI-PWP20-3005X2005TP_M (SOP, 20-Leads, Body 6.5x4.4mm, Pitch 0.65mm, Thermal Pad 3.4x2.4mm, IPC Low Density)
pins: 1 GND (power), 2 VREFPGA (in), 3 VINPGA- (in), 4 VOUTPRE-AMP (out), 5 VINPRE-AMP- (in), 6 VINPRE-AMP+ (in), 7 VCC-PRE-AMP (power), 8 VCC+PRE-AMP (power), 9 SPARE/NC, 10 SPARE/NC, 11 SPARE/NC, 12 VHPOSITIVE CLAMP (in), 13 VCC+PGA (power), 14 VCC-PGA (power), 15 VLNEGATIVE CLAMP (in), 16 VOUTPGA (out), 17 SHDN (in), 18 G2 (in), 19 G1 (in), 20 G0 (in), 21 EP (power)

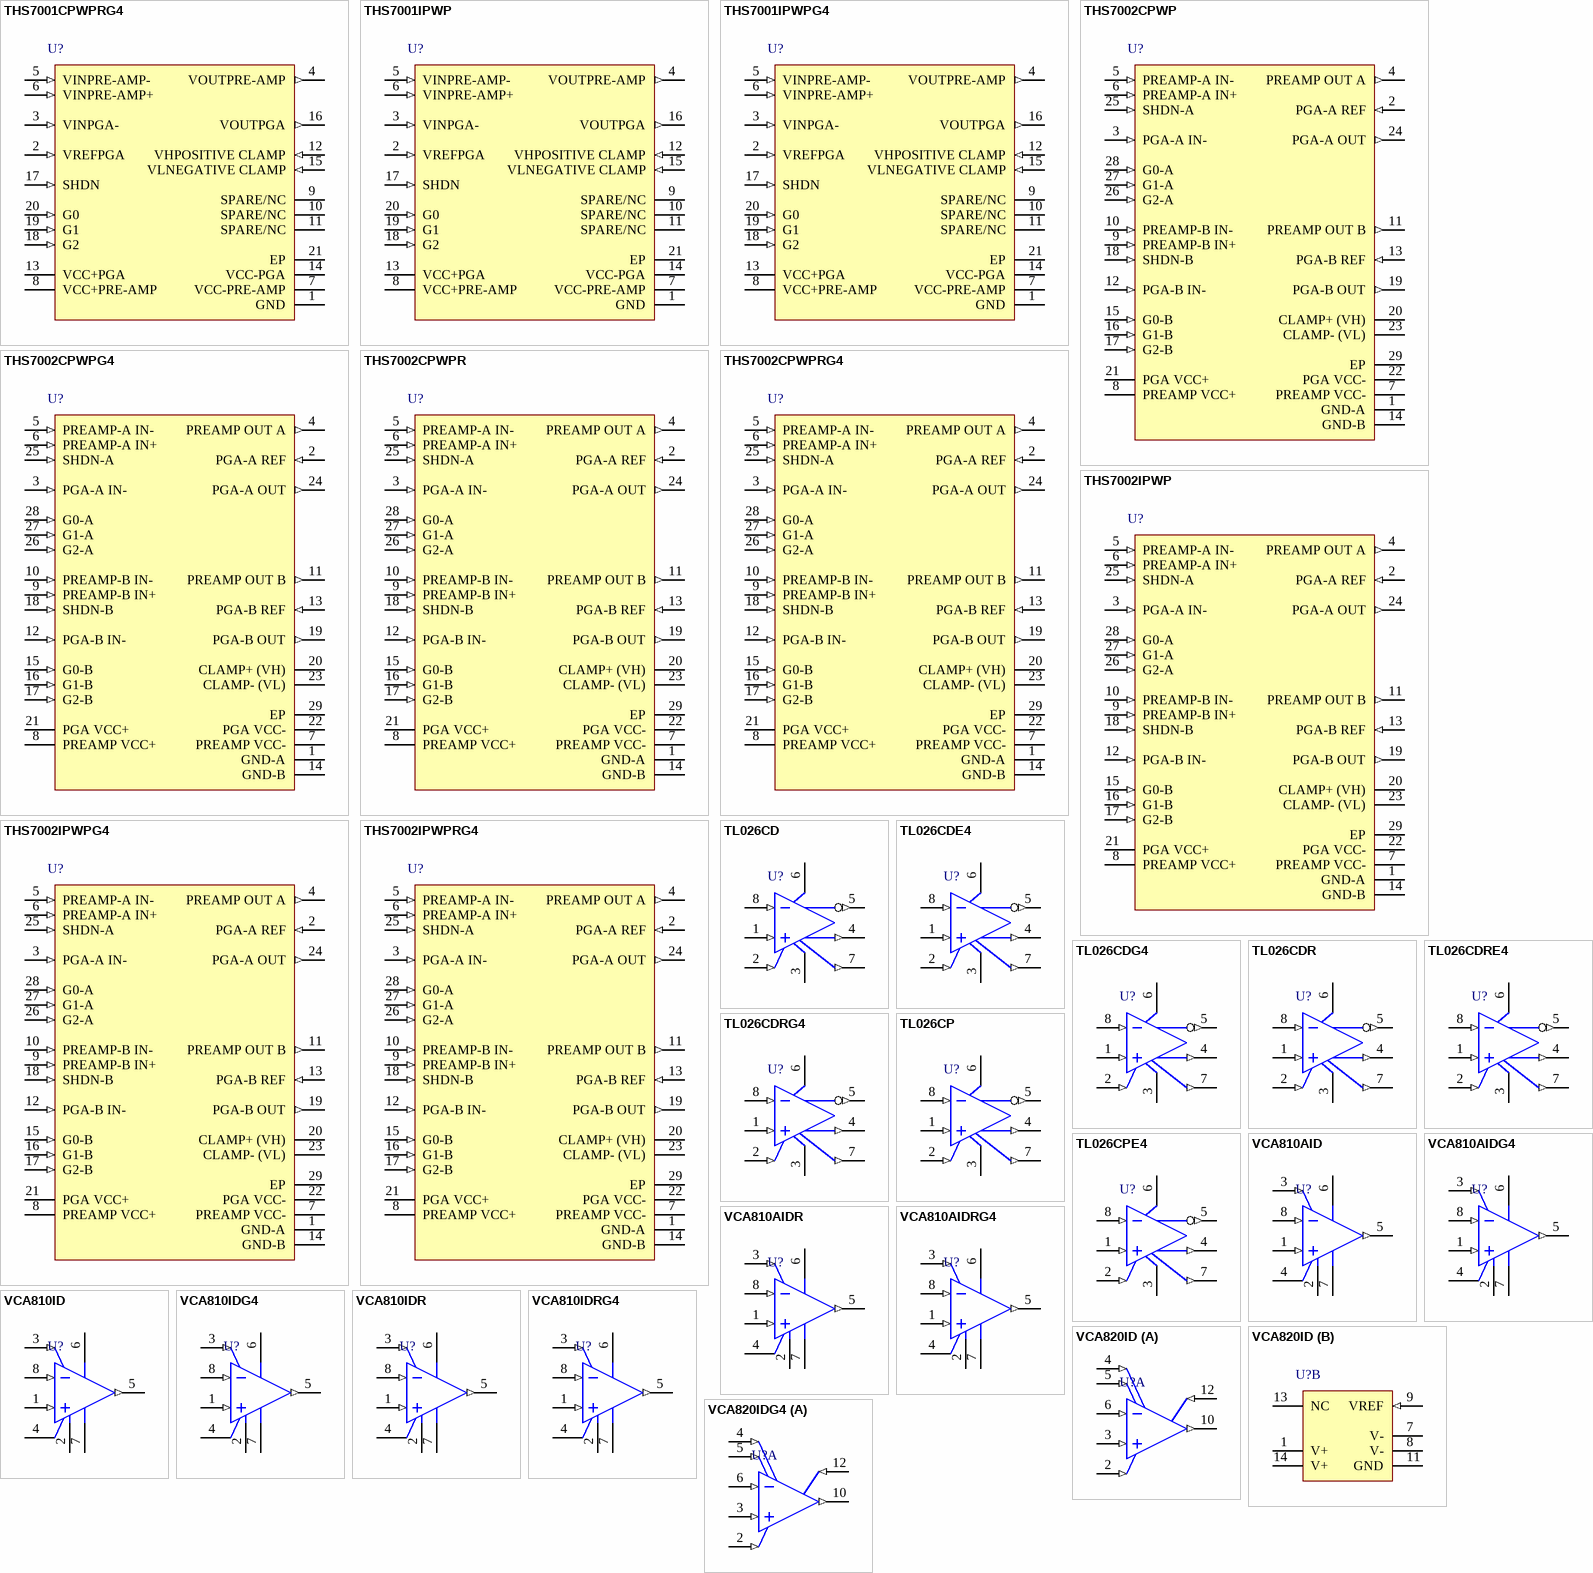
[diagram p2: symbols THS7001CPWPRG4 to VCA820IDG4]

## THS7001CPWPRG4
designator U?
70-MHz High-Speed Programmable-Gain Amplifier, 0 to 70 degC, 20-pin SOP (PWP20), Green (RoHS & no Sb/Br); Manufacturer: Texas Instruments; PartNumber: THS7001CPWPRG4; BW @ Acl(MHz): 100; Disable: TRUE; Iib(Max)(nA): 6000; Number of Channels: 1; Slew Rate(Typ)(V/us): 85; SubFamily: Variable Gain Amplifier; Vio(Max)(mV): 7; Vn at Flatband(Typ)(nV/rtHz): 1.7; Vs(Max)(V): 32; Vs(Min)(V): 9; DatasheetVersion: SLOS214C; PackageVersion: 4073225-4/I, 05/2011; PackageReference: PWP20-3005X2005TP; PackageDescription: 20-Pin Plastic Small Outline, Body 4.4 x 6.5 mm, Pitch 0.65 mm; Supplier 1: Digi-Key; Supplier Part Number 1: THS7001CPWPRG4-ND; Supplier 2: Newark; Supplier Part Number 2: 14M2299; Supplier 3: Mouser; Supplier Part Number 3: 595-THS7001CPWPRG4; Eco-Plan: Green (RoHS & no Sb/Br); Mounting Technology: Surface Mount; Code_JEDEC: MO-153; ComponentLink1Description: Manufacturer URL; ComponentLink1URL: http://www.ti.com/; ComponentLink2Description: Datasheet; ComponentLink2URL: http://www.ti.com/general/docs/lit/getliterature.tsp?genericPartNumber=THS7001&fileType=pdf; ComponentLink3Description: Package Specification; ComponentLink3URL: http://www.ti.com/lit/ml/mhts001g/mhts001g.pdf
footprint TI-PWP20-3005X2005TP_N (SOP, 20-Leads, Body 6.5x4.4mm, Pitch 0.65mm, Thermal Pad 3.4x2.4mm, IPC Medium Density)
footprint TI-PWP20-3005X2005TP_L (SOP, 20-Leads, Body 6.5x4.4mm, Pitch 0.65mm, Thermal Pad 3.4x2.4mm, IPC High Density)
footprint TI-PWP20-3005X2005TP_M (SOP, 20-Leads, Body 6.5x4.4mm, Pitch 0.65mm, Thermal Pad 3.4x2.4mm, IPC Low Density)
pins: 1 GND (power), 2 VREFPGA (in), 3 VINPGA- (in), 4 VOUTPRE-AMP (out), 5 VINPRE-AMP- (in), 6 VINPRE-AMP+ (in), 7 VCC-PRE-AMP (power), 8 VCC+PRE-AMP (power), 9 SPARE/NC, 10 SPARE/NC, 11 SPARE/NC, 12 VHPOSITIVE CLAMP (in), 13 VCC+PGA (power), 14 VCC-PGA (power), 15 VLNEGATIVE CLAMP (in), 16 VOUTPGA (out), 17 SHDN (in), 18 G2 (in), 19 G1 (in), 20 G0 (in), 21 EP (power)

## THS7001IPWP
designator U?
70-MHz High-Speed Programmable-Gain Amplifier, -40 to 85 degC, 20-pin SOP (PWP20), Green (RoHS & no Sb/Br); Manufacturer: Texas Instruments; PartNumber: THS7001IPWP; BW @ Acl(MHz): 100; Disable: TRUE; Iib(Max)(nA): 6000; Number of Channels: 1; Slew Rate(Typ)(V/us): 85; SubFamily: Variable Gain Amplifier; Vio(Max)(mV): 7; Vn at Flatband(Typ)(nV/rtHz): 1.7; Vs(Max)(V): 32; Vs(Min)(V): 9; DatasheetVersion: SLOS214C; PackageVersion: 4073225-4/I, 05/2011; PackageReference: PWP20-3005X2005TP; PackageDescription: 20-Pin Plastic Small Outline, Body 4.4 x 6.5 mm, Pitch 0.65 mm; Supplier 1: Digi-Key; Supplier Part Number 1: 296-7048-5-ND; Supplier 2: Newark; Supplier Part Number 2: 76C6601; Supplier 3: Mouser; Supplier Part Number 3: 595-THS7001IPWP; Eco-Plan: Green (RoHS & no Sb/Br); Mounting Technology: Surface Mount; Code_JEDEC: MO-153; ComponentLink1Description: Manufacturer URL; ComponentLink1URL: http://www.ti.com/; ComponentLink2Description: Datasheet; ComponentLink2URL: http://www.ti.com/general/docs/lit/getliterature.tsp?genericPartNumber=THS7001&fileType=pdf; ComponentLink3Description: Package Specification; ComponentLink3URL: http://www.ti.com/lit/ml/mhts001g/mhts001g.pdf
footprint TI-PWP20-3005X2005TP_N (SOP, 20-Leads, Body 6.5x4.4mm, Pitch 0.65mm, Thermal Pad 3.4x2.4mm, IPC Medium Density)
footprint TI-PWP20-3005X2005TP_L (SOP, 20-Leads, Body 6.5x4.4mm, Pitch 0.65mm, Thermal Pad 3.4x2.4mm, IPC High Density)
footprint TI-PWP20-3005X2005TP_M (SOP, 20-Leads, Body 6.5x4.4mm, Pitch 0.65mm, Thermal Pad 3.4x2.4mm, IPC Low Density)
pins: 1 GND (power), 2 VREFPGA (in), 3 VINPGA- (in), 4 VOUTPRE-AMP (out), 5 VINPRE-AMP- (in), 6 VINPRE-AMP+ (in), 7 VCC-PRE-AMP (power), 8 VCC+PRE-AMP (power), 9 SPARE/NC, 10 SPARE/NC, 11 SPARE/NC, 12 VHPOSITIVE CLAMP (in), 13 VCC+PGA (power), 14 VCC-PGA (power), 15 VLNEGATIVE CLAMP (in), 16 VOUTPGA (out), 17 SHDN (in), 18 G2 (in), 19 G1 (in), 20 G0 (in), 21 EP (power)

## THS7001IPWPG4
designator U?
70-MHz High-Speed Programmable-Gain Amplifier, -40 to 85 degC, 20-pin SOP (PWP20), Green (RoHS & no Sb/Br); Manufacturer: Texas Instruments; PartNumber: THS7001IPWPG4; BW @ Acl(MHz): 100; Disable: TRUE; Iib(Max)(nA): 6000; Number of Channels: 1; Slew Rate(Typ)(V/us): 85; SubFamily: Variable Gain Amplifier; Vio(Max)(mV): 7; Vn at Flatband(Typ)(nV/rtHz): 1.7; Vs(Max)(V): 32; Vs(Min)(V): 9; DatasheetVersion: SLOS214C; PackageVersion: 4073225-4/I, 05/2011; PackageReference: PWP20-3005X2005TP; PackageDescription: 20-Pin Plastic Small Outline, Body 4.4 x 6.5 mm, Pitch 0.65 mm; Supplier 1: Digi-Key; Supplier Part Number 1: THS7001IPWPG4-ND; Supplier 2: Newark; Supplier Part Number 2: 70K5477; Supplier 3: Mouser; Supplier Part Number 3: 595-THS7001IPWPG4; Eco-Plan: Green (RoHS & no Sb/Br); Mounting Technology: Surface Mount; Code_JEDEC: MO-153; ComponentLink1Description: Manufacturer URL; ComponentLink1URL: http://www.ti.com/; ComponentLink2Description: Datasheet; ComponentLink2URL: http://www.ti.com/general/docs/lit/getliterature.tsp?genericPartNumber=THS7001&fileType=pdf; ComponentLink3Description: Package Specification; ComponentLink3URL: http://www.ti.com/lit/ml/mhts001g/mhts001g.pdf
footprint TI-PWP20-3005X2005TP_N (SOP, 20-Leads, Body 6.5x4.4mm, Pitch 0.65mm, Thermal Pad 3.4x2.4mm, IPC Medium Density)
footprint TI-PWP20-3005X2005TP_L (SOP, 20-Leads, Body 6.5x4.4mm, Pitch 0.65mm, Thermal Pad 3.4x2.4mm, IPC High Density)
footprint TI-PWP20-3005X2005TP_M (SOP, 20-Leads, Body 6.5x4.4mm, Pitch 0.65mm, Thermal Pad 3.4x2.4mm, IPC Low Density)
pins: 1 GND (power), 2 VREFPGA (in), 3 VINPGA- (in), 4 VOUTPRE-AMP (out), 5 VINPRE-AMP- (in), 6 VINPRE-AMP+ (in), 7 VCC-PRE-AMP (power), 8 VCC+PRE-AMP (power), 9 SPARE/NC, 10 SPARE/NC, 11 SPARE/NC, 12 VHPOSITIVE CLAMP (in), 13 VCC+PGA (power), 14 VCC-PGA (power), 15 VLNEGATIVE CLAMP (in), 16 VOUTPGA (out), 17 SHDN (in), 18 G2 (in), 19 G1 (in), 20 G0 (in), 21 EP (power)

## THS7002CPWP
designator U?
70-MHz High-Speed Programmable-Gain Amplifier, Dual, 0 to 70 degC, 28-pin SOP (PWP28), Green (RoHS & no Sb/Br); Manufacturer: Texas Instruments; PartNumber: THS7002CPWP; BW @ Acl(MHz): 100; Disable: TRUE; Iib(Max)(nA): 6000; Number of Channels: 2; Slew Rate(Typ)(V/us): 85; SubFamily: Variable Gain Amplifier; Vio(Max)(mV): 7; Vn at Flatband(Typ)(nV/rtHz): 1.7; Vs(Max)(V): 32; Vs(Min)(V): 9; DatasheetVersion: SLOS214C; PackageVersion: 4073225-6/I, 05/2011; PackageReference: PWP28-5720X1950TP; PackageDescription: 28-Pin Plastic Small Outline, Body 4.4 x 9.7 mm, Pitch 0.65 mm; Supplier 1: Digi-Key; Supplier Part Number 1: 296-2412-5-ND; Supplier 2: Newark; Supplier Part Number 2: 92B8975; Supplier 3: Mouser; Supplier Part Number 3: 595-THS7002CPWP; Eco-Plan: Green (RoHS & no Sb/Br); Mounting Technology: Surface Mount; Code_JEDEC: MO-153; ComponentLink1Description: Manufacturer URL; ComponentLink1URL: http://www.ti.com/; ComponentLink2Description: Datasheet; ComponentLink2URL: http://www.ti.com/general/docs/lit/getliterature.tsp?genericPartNumber=THS7002&fileType=pdf; ComponentLink3Description: Package Specification; ComponentLink3URL: http://www.ti.com/litv/pdf/mpds373
footprint TI-PWP28-5720X1950TP_N (SOP, 28-Leads, Body 9.8x4.5mm, Pitch 0.65mm, Thermal Pad 6.17x2.4mm, IPC Medium Density)
footprint TI-PWP28-5720X1950TP_L (SOP, 28-Leads, Body 9.8x4.5mm, Pitch 0.65mm, Thermal Pad 6.17x2.4mm, IPC High Density)
footprint TI-PWP28-5720X1950TP_M (SOP, 28-Leads, Body 9.8x4.5mm, Pitch 0.65mm, Thermal Pad 6.17x2.4mm, IPC Low Density)
pins: 1 GND-A (power), 2 PGA-A REF (in), 3 PGA-A IN- (in), 4 PREAMP OUT A (out), 5 PREAMP-A IN- (in), 6 PREAMP-A IN+ (in), 7 PREAMP VCC- (power), 8 PREAMP VCC+ (power), 9 PREAMP-B IN+ (in), 10 PREAMP-B IN- (in), 11 PREAMP OUT B (out), 12 PGA-B IN- (in), 13 PGA-B REF (in), 14 GND-B (power), 15 G0-B (in), 16 G1-B (in), 17 G2-B (in), 18 SHDN-B (in), 19 PGA-B OUT (out), 20 CLAMP+ (VH) (power), 21 PGA VCC+ (power), 22 PGA VCC- (power), 23 CLAMP- (VL) (power), 24 PGA-A OUT (out), 25 SHDN-A (in), 26 G2-A (in), 27 G1-A (in), 28 G0-A (in), 29 EP (power)

## THS7002CPWPG4
designator U?
70-MHz High-Speed Programmable-Gain Amplifier, Dual, 0 to 70 degC, 28-pin SOP (PWP28), Green (RoHS & no Sb/Br); Manufacturer: Texas Instruments; PartNumber: THS7002CPWPG4; BW @ Acl(MHz): 100; Disable: TRUE; Iib(Max)(nA): 6000; Number of Channels: 2; Slew Rate(Typ)(V/us): 85; SubFamily: Variable Gain Amplifier; Vio(Max)(mV): 7; Vn at Flatband(Typ)(nV/rtHz): 1.7; Vs(Max)(V): 32; Vs(Min)(V): 9; DatasheetVersion: SLOS214C; PackageVersion: 4073225-6/I, 05/2011; PackageReference: PWP28-5720X1950TP; PackageDescription: 28-Pin Plastic Small Outline, Body 4.4 x 9.7 mm, Pitch 0.65 mm; Supplier 1: Digi-Key; Supplier Part Number 1: THS7002CPWPG4-ND; Supplier 2: Newark; Supplier Part Number 2: 52M6058; Supplier 3: Mouser; Supplier Part Number 3: 595-THS7002CPWPG4; Eco-Plan: Green (RoHS & no Sb/Br); Mounting Technology: Surface Mount; Code_JEDEC: MO-153; ComponentLink1Description: Manufacturer URL; ComponentLink1URL: http://www.ti.com/; ComponentLink2Description: Datasheet; ComponentLink2URL: http://www.ti.com/general/docs/lit/getliterature.tsp?genericPartNumber=THS7002&fileType=pdf; ComponentLink3Description: Package Specification; ComponentLink3URL: http://www.ti.com/litv/pdf/mpds373
footprint TI-PWP28-5720X1950TP_N (SOP, 28-Leads, Body 9.8x4.5mm, Pitch 0.65mm, Thermal Pad 6.17x2.4mm, IPC Medium Density)
footprint TI-PWP28-5720X1950TP_L (SOP, 28-Leads, Body 9.8x4.5mm, Pitch 0.65mm, Thermal Pad 6.17x2.4mm, IPC High Density)
footprint TI-PWP28-5720X1950TP_M (SOP, 28-Leads, Body 9.8x4.5mm, Pitch 0.65mm, Thermal Pad 6.17x2.4mm, IPC Low Density)
pins: 1 GND-A (power), 2 PGA-A REF (in), 3 PGA-A IN- (in), 4 PREAMP OUT A (out), 5 PREAMP-A IN- (in), 6 PREAMP-A IN+ (in), 7 PREAMP VCC- (power), 8 PREAMP VCC+ (power), 9 PREAMP-B IN+ (in), 10 PREAMP-B IN- (in), 11 PREAMP OUT B (out), 12 PGA-B IN- (in), 13 PGA-B REF (in), 14 GND-B (power), 15 G0-B (in), 16 G1-B (in), 17 G2-B (in), 18 SHDN-B (in), 19 PGA-B OUT (out), 20 CLAMP+ (VH) (power), 21 PGA VCC+ (power), 22 PGA VCC- (power), 23 CLAMP- (VL) (power), 24 PGA-A OUT (out), 25 SHDN-A (in), 26 G2-A (in), 27 G1-A (in), 28 G0-A (in), 29 EP (power)

## THS7002CPWPR
designator U?
70-MHz High-Speed Programmable-Gain Amplifier, Dual, 0 to 70 degC, 28-pin SOP (PWP28), Green (RoHS & no Sb/Br); Manufacturer: Texas Instruments; PartNumber: THS7002CPWPR; BW @ Acl(MHz): 100; Disable: TRUE; Iib(Max)(nA): 6000; Number of Channels: 2; Slew Rate(Typ)(V/us): 85; SubFamily: Variable Gain Amplifier; Vio(Max)(mV): 7; Vn at Flatband(Typ)(nV/rtHz): 1.7; Vs(Max)(V): 32; Vs(Min)(V): 9; DatasheetVersion: SLOS214C; PackageVersion: 4073225-6/I, 05/2011; PackageReference: PWP28-5720X1950TP; PackageDescription: 28-Pin Plastic Small Outline, Body 4.4 x 9.7 mm, Pitch 0.65 mm; Supplier 1: Digi-Key; Supplier Part Number 1: THS7002CPWPR-ND; Supplier 2: Newark; Supplier Part Number 2: 76C6603; Supplier 3: Mouser; Supplier Part Number 3: 595-THS7002CPWPR; Eco-Plan: Green (RoHS & no Sb/Br); Mounting Technology: Surface Mount; Code_JEDEC: MO-153; ComponentLink1Description: Manufacturer URL; ComponentLink1URL: http://www.ti.com/; ComponentLink2Description: Datasheet; ComponentLink2URL: http://www.ti.com/general/docs/lit/getliterature.tsp?genericPartNumber=THS7002&fileType=pdf; ComponentLink3Description: Package Specification; ComponentLink3URL: http://www.ti.com/litv/pdf/mpds373
footprint TI-PWP28-5720X1950TP_N (SOP, 28-Leads, Body 9.8x4.5mm, Pitch 0.65mm, Thermal Pad 6.17x2.4mm, IPC Medium Density)
footprint TI-PWP28-5720X1950TP_L (SOP, 28-Leads, Body 9.8x4.5mm, Pitch 0.65mm, Thermal Pad 6.17x2.4mm, IPC High Density)
footprint TI-PWP28-5720X1950TP_M (SOP, 28-Leads, Body 9.8x4.5mm, Pitch 0.65mm, Thermal Pad 6.17x2.4mm, IPC Low Density)
pins: 1 GND-A (power), 2 PGA-A REF (in), 3 PGA-A IN- (in), 4 PREAMP OUT A (out), 5 PREAMP-A IN- (in), 6 PREAMP-A IN+ (in), 7 PREAMP VCC- (power), 8 PREAMP VCC+ (power), 9 PREAMP-B IN+ (in), 10 PREAMP-B IN- (in), 11 PREAMP OUT B (out), 12 PGA-B IN- (in), 13 PGA-B REF (in), 14 GND-B (power), 15 G0-B (in), 16 G1-B (in), 17 G2-B (in), 18 SHDN-B (in), 19 PGA-B OUT (out), 20 CLAMP+ (VH) (power), 21 PGA VCC+ (power), 22 PGA VCC- (power), 23 CLAMP- (VL) (power), 24 PGA-A OUT (out), 25 SHDN-A (in), 26 G2-A (in), 27 G1-A (in), 28 G0-A (in), 29 EP (power)

## THS7002CPWPRG4
designator U?
70-MHz High-Speed Programmable-Gain Amplifier, Dual, 0 to 70 degC, 28-pin SOP (PWP28), Green (RoHS & no Sb/Br); Manufacturer: Texas Instruments; PartNumber: THS7002CPWPRG4; BW @ Acl(MHz): 100; Disable: TRUE; Iib(Max)(nA): 6000; Number of Channels: 2; Slew Rate(Typ)(V/us): 85; SubFamily: Variable Gain Amplifier; Vio(Max)(mV): 7; Vn at Flatband(Typ)(nV/rtHz): 1.7; Vs(Max)(V): 32; Vs(Min)(V): 9; DatasheetVersion: SLOS214C; PackageVersion: 4073225-6/I, 05/2011; PackageReference: PWP28-5720X1950TP; PackageDescription: 28-Pin Plastic Small Outline, Body 4.4 x 9.7 mm, Pitch 0.65 mm; Supplier 1: Digi-Key; Supplier Part Number 1: THS7002CPWPRG4-ND; Supplier 2: Newark; Supplier Part Number 2: 54K0782; Supplier 3: Mouser; Supplier Part Number 3: 595-THS7002CPWPRG4; Eco-Plan: Green (RoHS & no Sb/Br); Mounting Technology: Surface Mount; Code_JEDEC: MO-153; ComponentLink1Description: Manufacturer URL; ComponentLink1URL: http://www.ti.com/; ComponentLink2Description: Datasheet; ComponentLink2URL: http://www.ti.com/general/docs/lit/getliterature.tsp?genericPartNumber=THS7002&fileType=pdf; ComponentLink3Description: Package Specification; ComponentLink3URL: http://www.ti.com/litv/pdf/mpds373
footprint TI-PWP28-5720X1950TP_N (SOP, 28-Leads, Body 9.8x4.5mm, Pitch 0.65mm, Thermal Pad 6.17x2.4mm, IPC Medium Density)
footprint TI-PWP28-5720X1950TP_L (SOP, 28-Leads, Body 9.8x4.5mm, Pitch 0.65mm, Thermal Pad 6.17x2.4mm, IPC High Density)
footprint TI-PWP28-5720X1950TP_M (SOP, 28-Leads, Body 9.8x4.5mm, Pitch 0.65mm, Thermal Pad 6.17x2.4mm, IPC Low Density)
pins: 1 GND-A (power), 2 PGA-A REF (in), 3 PGA-A IN- (in), 4 PREAMP OUT A (out), 5 PREAMP-A IN- (in), 6 PREAMP-A IN+ (in), 7 PREAMP VCC- (power), 8 PREAMP VCC+ (power), 9 PREAMP-B IN+ (in), 10 PREAMP-B IN- (in), 11 PREAMP OUT B (out), 12 PGA-B IN- (in), 13 PGA-B REF (in), 14 GND-B (power), 15 G0-B (in), 16 G1-B (in), 17 G2-B (in), 18 SHDN-B (in), 19 PGA-B OUT (out), 20 CLAMP+ (VH) (power), 21 PGA VCC+ (power), 22 PGA VCC- (power), 23 CLAMP- (VL) (power), 24 PGA-A OUT (out), 25 SHDN-A (in), 26 G2-A (in), 27 G1-A (in), 28 G0-A (in), 29 EP (power)

## THS7002IPWP
designator U?
70-MHz High-Speed Programmable-Gain Amplifier, Dual, -40 to 85 degC, 28-pin SOP (PWP28), Green (RoHS & no Sb/Br); Manufacturer: Texas Instruments; PartNumber: THS7002IPWP; BW @ Acl(MHz): 100; Disable: TRUE; Iib(Max)(nA): 6000; Number of Channels: 2; Slew Rate(Typ)(V/us): 85; SubFamily: Variable Gain Amplifier; Vio(Max)(mV): 7; Vn at Flatband(Typ)(nV/rtHz): 1.7; Vs(Max)(V): 32; Vs(Min)(V): 9; DatasheetVersion: SLOS214C; PackageVersion: 4073225-6/I, 05/2011; PackageReference: PWP28-5720X1950TP; PackageDescription: 28-Pin Plastic Small Outline, Body 4.4 x 9.7 mm, Pitch 0.65 mm; Supplier 1: Digi-Key; Supplier Part Number 1: 296-7049-5-ND; Supplier 2: Newark; Supplier Part Number 2: 76C6605; Supplier 3: Mouser; Supplier Part Number 3: 595-THS7002IPWP; Eco-Plan: Green (RoHS & no Sb/Br); Mounting Technology: Surface Mount; Code_JEDEC: MO-153; ComponentLink1Description: Manufacturer URL; ComponentLink1URL: http://www.ti.com/; ComponentLink2Description: Datasheet; ComponentLink2URL: http://www.ti.com/general/docs/lit/getliterature.tsp?genericPartNumber=THS7002&fileType=pdf; ComponentLink3Description: Package Specification; ComponentLink3URL: http://www.ti.com/litv/pdf/mpds373
footprint TI-PWP28-5720X1950TP_N (SOP, 28-Leads, Body 9.8x4.5mm, Pitch 0.65mm, Thermal Pad 6.17x2.4mm, IPC Medium Density)
footprint TI-PWP28-5720X1950TP_L (SOP, 28-Leads, Body 9.8x4.5mm, Pitch 0.65mm, Thermal Pad 6.17x2.4mm, IPC High Density)
footprint TI-PWP28-5720X1950TP_M (SOP, 28-Leads, Body 9.8x4.5mm, Pitch 0.65mm, Thermal Pad 6.17x2.4mm, IPC Low Density)
pins: 1 GND-A (power), 2 PGA-A REF (in), 3 PGA-A IN- (in), 4 PREAMP OUT A (out), 5 PREAMP-A IN- (in), 6 PREAMP-A IN+ (in), 7 PREAMP VCC- (power), 8 PREAMP VCC+ (power), 9 PREAMP-B IN+ (in), 10 PREAMP-B IN- (in), 11 PREAMP OUT B (out), 12 PGA-B IN- (in), 13 PGA-B REF (in), 14 GND-B (power), 15 G0-B (in), 16 G1-B (in), 17 G2-B (in), 18 SHDN-B (in), 19 PGA-B OUT (out), 20 CLAMP+ (VH) (power), 21 PGA VCC+ (power), 22 PGA VCC- (power), 23 CLAMP- (VL) (power), 24 PGA-A OUT (out), 25 SHDN-A (in), 26 G2-A (in), 27 G1-A (in), 28 G0-A (in), 29 EP (power)